# Altium schematic symbol library SCH - DRIVER - LED - TI LM3421_PWP_16.SchLib: 1 symbol
Pins are listed as number, name and electrical type; pins without a type are passive.

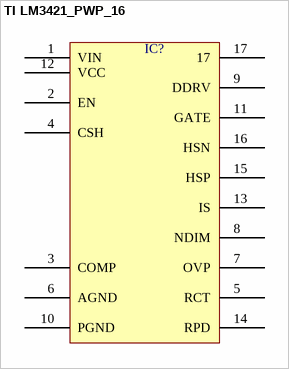
[diagram p0: symbol TI LM3421_PWP_16]

## TI LM3421_PWP_16
designator IC?  (value not drawn)
pins: 1 VIN, 2 EN, 3 COMP, 4 CSH, 5 RCT, 6 AGND, 7 OVP, 8 NDIM, 9 DDRV, 10 PGND, 11 GATE, 12 VCC, 13 IS, 14 RPD, 15 HSP, 16 HSN, 17